# EAGLE library part SI4888DY (library m-pad-2.1)
Vishay Siliconix Si4888DY N-Channel Reduced Qg, Fast Switching MOSFET FEATURES: TrenchFET Power MOSFET PWM Optimized High-Efficiency 100% Rg Tested Please send any comments to: messi@users.sourceforge.net
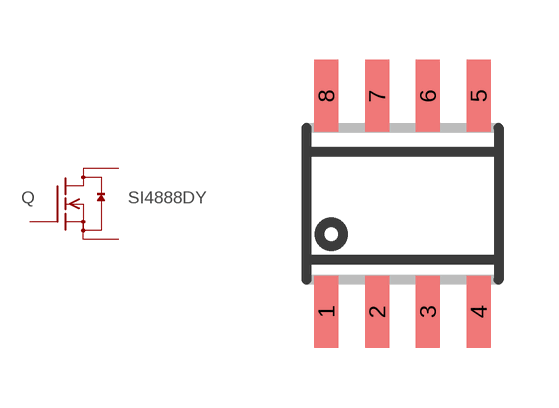
[diagram p73: symbol with the pads of SOIC8; footprint SOIC8]

Designator prefix Q

## SI4888DY  [SOIC8]
1  S  pas
2  S  pas
3  S  pas
4  G  pas
5  D  pas
6  D  pas
7  D  pas
8  D  pas

## Footprint SOIC8 (pad centres in mm)
Small Outline IC
smd 0.6 x 1.8: 1 -1.905,-2.7; 2 -0.635,-2.7; 3 0.635,-2.7; 4 1.905,-2.7; 5 1.905,2.7; 6 0.635,2.7; 7 -0.635,2.7; 8 -1.905,2.7